# Altium schematic symbol library Nova_SCHLIB.SchLib: 37 symbols
Pins are listed as number, name and electrical type; pins without a type are passive.

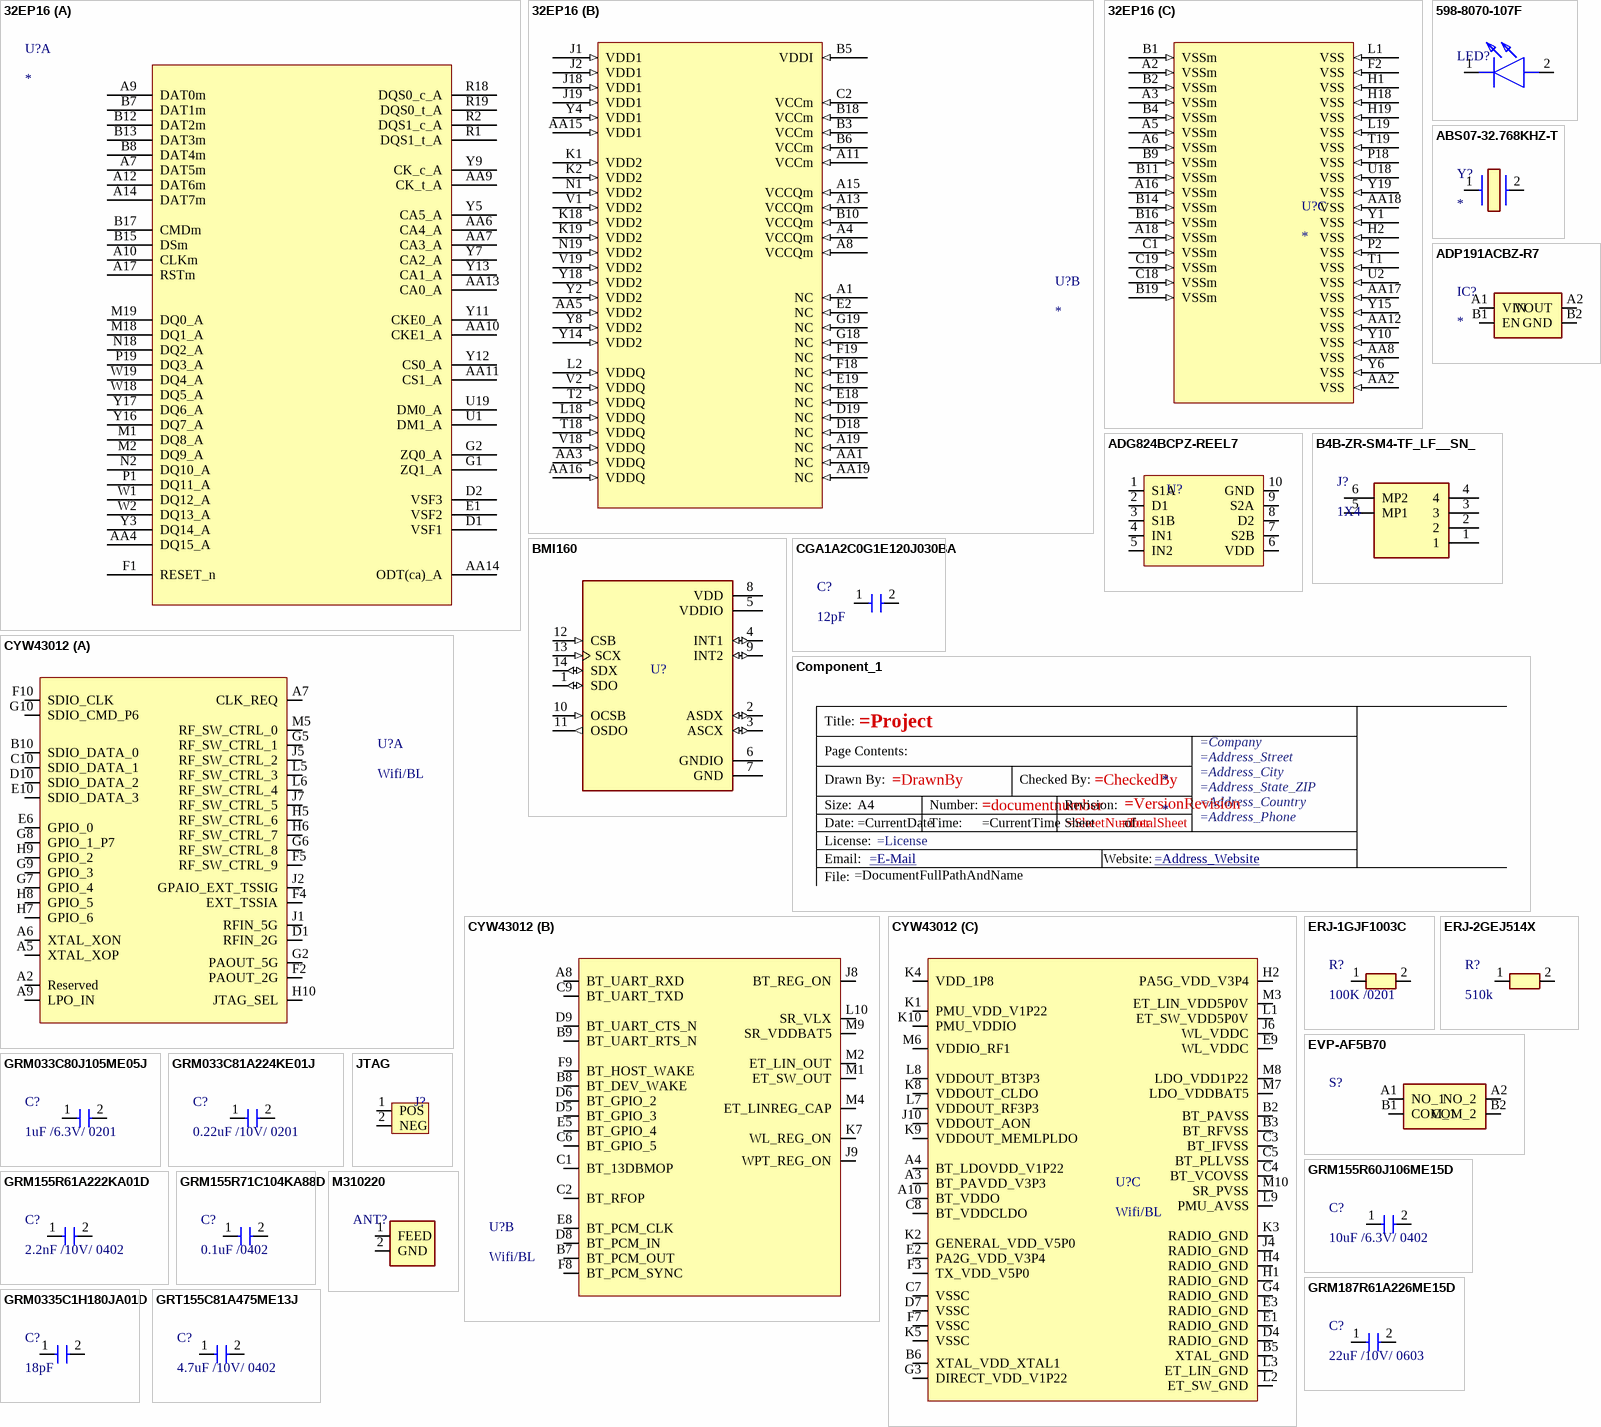
[diagram p0: symbols 32EP16 to M310220]

## 32EP16
designator U?
footprint BGA144C40P19X21_800X950X80 (BGA, 144-Leads, Body 8.00x9.50mmx0.80mm, Pitch 0.40mm)
part A pins: A7 DAT5m, A9 DAT0m, A10 CLKm, A12 DAT6m, A14 DAT7m, A17 RSTm, AA4 DQ15_A, AA6 CA4_A, AA7 CA3_A, AA9 CK_t_A, AA10 CKE1_A, AA11 CS1_A, AA13 CA0_A, AA14 ODT(ca)_A, B7 DAT1m, B8 DAT4m, B12 DAT2m, B13 DAT3m, B15 DSm, B17 CMDm, D1 VSF1, D2 VSF3, E1 VSF2, F1 RESET_n, G1 ZQ1_A, G2 ZQ0_A, M1 DQ8_A, M2 DQ9_A, M18 DQ1_A, M19 DQ0_A, N2 DQ10_A, N18 DQ2_A, P1 DQ11_A, P19 DQ3_A, R1 DQS1_t_A, R2 DQS1_c_A, R18 DQS0_c_A, R19 DQS0_t_A, U1 DM1_A, U19 DM0_A, W1 DQ12_A, W2 DQ13_A, W18 DQ5_A, W19 DQ4_A, Y3 DQ14_A, Y5 CA5_A, Y7 CA2_A, Y9 CK_c_A, Y11 CKE0_A, Y12 CS0_A, Y13 CA1_A, Y16 DQ7_A, Y17 DQ6_A
part B pins: A1 NC (in), A4 VCCQm (in), A8 VCCQm (in), A11 VCCm (in), A13 VCCQm (in), A15 VCCQm (in), A19 NC (in), AA1 NC (in), AA3 VDDQ (in), AA5 VDD2 (in), AA15 VDD1 (in), AA16 VDDQ  (in), AA19 NC (in), B3 VCCm (in), B5 VDDI (in), B6 VCCm (in), B10 VCCQm (in), B18 VCCm (in), C2 VCCm (in), D18 NC (in), D19 NC (in), E2 NC (in), E18 NC (in), E19 NC (in), F18 NC (in), F19 NC (in), G18 NC (in), G19 NC (in), J1 VDD1 (in), J2 VDD1 (in), J18 VDD1 (in), J19 VDD1 (in), K1 VDD2 (in), K2 VDD2 (in), K18 VDD2 (in), K19 VDD2 (in), L2 VDDQ (in), L18 VDDQ (in), N1 VDD2 (in), N19 VDD2 (in), T2 VDDQ (in), T18 VDDQ (in), V1 VDD2 (in), V2 VDDQ (in), V18 VDDQ (in), V19 VDD2 (in), Y2 VDD2 (in), Y4 VDD1 (in), Y8 VDD2 (in), Y14 VDD2 (in), Y18 VDD2 (in)
part C pins: A2 VSSm (in), A3 VSSm (in), A5 VSSm (in), A6 VSSm (in), A16 VSSm (in), A18 VSSm (in), AA2 VSS (in), AA8 VSS (in), AA12 VSS (in), AA17 VSS (in), AA18 VSS (in), B1 VSSm (in), B2 VSSm (in), B4 VSSm (in), B9 VSSm (in), B11 VSSm (in), B14 VSSm (in), B16 VSSm (in), B19 VSSm (in), C1 VSSm (in), C18 VSSm (in), C19 VSSm (in), F2 VSS (in), H1 VSS (in), H2 VSS (in), H18 VSS (in), H19 VSS (in), L1 VSS (in), L19 VSS (in), P2 VSS (in), P18 VSS (in), T1 VSS (in), T19 VSS (in), U2 VSS (in), U18 VSS (in), Y1 VSS (in), Y6 VSS (in), Y10 VSS (in), Y15 VSS (in), Y19 VSS (in)

## 598-8070-107F
designator LED?
LED; Manufacturer_Name: Dialight; Manufacturer_Part_Number: 598-8070-107F; Datasheet Link: https://www.mouser.in/datasheet/2/109/Dialight_CBI_data_598_0603_Apr2018-2944350.pdf; Height: 0.8mm; Mouser Part Number: 645-598-8070-107F; Mouser Price/Stock: https://www.mouser.co.uk/ProductDetail/Dialight/598-8070-107F?qs=7JStj%2FjQ2SEP6f6GzqcocA%3D%3D; Arrow Part Number: 598-8070-107F; Arrow Price/Stock: https://www.arrow.com/en/products/598-8070-107f/dialight?region=nac
footprint 5988070107F
pins: 1 K, 2 A

## ABS07-32.768KHZ-T
designator Y?
Crystal or Oscillator; Manufacturer_Name: ABRACON; Manufacturer_Part_Number: ABS07-32.768KHZ-T; Datasheet Link: https://abracon.com/Resonators/ABS07.pdf; Height: 0.9mm; Mouser Part Number: 815-ABS07-32.768KHZT; Mouser Price/Stock: https://www.mouser.co.uk/ProductDetail/ABRACON/ABS07-32.768KHZ-T?qs=3SpAxaLJ01g8GJWeO3sA3Q%3D%3D; Arrow Part Number: ABS07-32.768KHZ-T; Arrow Price/Stock: https://www.arrow.com/en/products/abs07-32.768khz-t/abracon?utm_currency=USD&region=europe
footprint ABS07
pins: 1, 2

## ADG824BCPZ-REEL7
designator U?
IC SWITCH SPDTX2 800MOHM 10LFCSP; ComponentLink1Description: New link; ComponentLink1URL: https://www.digikey.com/en/products/detail/analog-devices-inc/ADG824BCPZ-REEL7/1956054
footprint ADG824
pins: 1 S1A, 2 D1, 3 S1B, 4 IN1, 5 IN2, 6 VDD, 7 S2B, 8 D2, 9 S2A, 10 GND

## ADP191ACBZ-R7
designator IC?
Integrated Circuit; Manufacturer_Name: Analog Devices; Manufacturer_Part_Number: ADP191ACBZ-R7; Description: Logic Controlled; Mouser Part Number: 584-ADP191ACBZ-R7; Mouser Price/Stock: https://www.mouser.co.uk/ProductDetail/Analog-Devices/ADP191ACBZ-R7?qs=WIvQP4zGaniqVZQregMmwA%3D%3D; Arrow Part Number: ADP191ACBZ-R7; Arrow Price/Stock: https://www.arrow.com/en/products/adp191acbz-r7/analog-devices?region=nac
footprint BGA4C40P2X2_76X76X66
pins: A1 VIN, A2 VOUT, B1 EN, B2 GND

## B4B-ZR-SM4-TF_LF__SN_
designator J?, comment 1X4
Connector; Manufacturer_Name: JST (JAPAN SOLDERLESS TERMINALS); Manufacturer_Part_Number: B4B-ZR-SM4-TF(LF)(SN); Datasheet Link: http://www.jst-mfg.com/product/pdf/eng/eZH.pdf; Height: 5mm; Mouser Part Number: N/A; Mouser Price/Stock: https://www.mouser.co.uk/ProductDetail/JST-Commercial/B4B-ZR-SM4-TFLFSN?qs=IKkN%2F947nfC%2FbT9OqR9GjQ%3D%3D; Arrow Part Number: B4B-ZR-SM4-TF(LF)(SN); Arrow Price/Stock: https://www.arrow.com/en/products/b4b-zr-sm4-tf-lf-sn/jst-manufacturing?region=europe
footprint B4BZRSM4TFLFSN
pins: 1, 2, 3, 4, 5 MP1, 6 MP2

## BMI160
designator U?
Accelerometer, Gyroscope, 6 Axis Sensor IÂ²C, SPI Output; MP: BMI160; Package: None; Price: None; Availability: Unavailable; Value: *
footprint PQFN50P250X300X88-14N
pins: 1 SDO (io), 2 ASDX (io), 3 ASCX (io), 4 INT1 (io), 5 VDDIO (power), 6 GNDIO (power), 7 GND (power), 8 VDD (power), 9 INT2 (io), 10 OCSB (in), 11 OSDO (out), 12 CSB (in), 13 SCX (in), 14 SDX (io)

## CGA1A2C0G1E120J030BA
designator C?, comment 12pF
Capacitor; Manufacturer_Name: TDK; Manufacturer_Part_Number: CGA1A2C0G1E120J030BA; Datasheet Link: https://product.tdk.com/system/files/dam/doc/product/capacitor/ceramic/mlcc/catalog/mlcc_automotive_general_en.pdf; Height: 0.33mm; Mouser Part Number: 810-CGA1A2C0G1E120J; Mouser Price/Stock: https://www.mouser.co.uk/ProductDetail/TDK/CGA1A2C0G1E120J030BA?qs=LcTL%2F5vFEzG7k0pRIRPkpw%3D%3D; Arrow Part Number: CGA1A2C0G1E120J030BA; Arrow Price/Stock: https://www.arrow.com/en/products/cga1a2c0g1e120j030ba/tdk?region=europe
footprint CAPC0603X33N
pins: 1, 2

## Component_1
designator *
text: Title:; Page Contents:; Drawn By:; Checked By:; Size:; A4; Number:; Revision:; Date:; Time:; Sheet; of; License:; Email:; Website:; File:

## CYW43012
designator U?, comment Wifi/BL
footprint 106 BALL WLBGA 3.76X4.43X0.53 MM
part A pins: A2 Reserved, A5 XTAL_XOP, A6 XTAL_XON, A7 CLK_REQ, A9 LPO_IN, B10 SDIO_DATA_0, C10 SDIO_DATA_1, D1 RFIN_2G, D10 SDIO_DATA_2, E6 GPIO_0, E10 SDIO_DATA_3, F2 PAOUT_2G, F4 EXT_TSSIA, F5 RF_SW_CTRL_9, F10 SDIO_CLK, G2 PAOUT_5G, G5 RF_SW_CTRL_1, G6 RF_SW_CTRL_8, G7 GPIO_4, G8 GPIO_1_P7, G9 GPIO_3, G10 SDIO_CMD_P6, H5 RF_SW_CTRL_6, H6 RF_SW_CTRL_7, H7 GPIO_6, H8 GPIO_5, H9 GPIO_2, H10 JTAG_SEL, J1 RFIN_5G, J2 GPAIO_EXT_TSSIG, J5 RF_SW_CTRL_2, J7 RF_SW_CTRL_5, L5 RF_SW_CTRL_3, L6 RF_SW_CTRL_4, M5 RF_SW_CTRL_0
part B pins: A8 BT_UART_RXD, B7 BT_PCM_OUT, B8 BT_DEV_WAKE, B9 BT_UART_RTS_N, C1 BT_13DBMOP, C2 BT_RFOP, C6 BT_GPIO_5, C9 BT_UART_TXD, D5 BT_GPIO_3, D6 BT_GPIO_2, D8 BT_PCM_IN, D9 BT_UART_CTS_N, E5 BT_GPIO_4, E8 BT_PCM_CLK, F8 BT_PCM_SYNC, F9 BT_HOST_WAKE, J8 BT_REG_ON, J9 WPT_REG_ON, K7 WL_REG_ON, L10 SR_VLX, M1 ET_SW_OUT, M2 ET_LIN_OUT, M4 ET_LINREG_CAP, M9 SR_VDDBAT5
part C pins: A3 BT_PAVDD_V3P3, A4 BT_LDOVDD_V1P22, A10 BT_VDDO, B2 BT_PAVSS, B3 BT_RFVSS, B5 XTAL_GND, B6 XTAL_VDD_XTAL1, C3 BT_IFVSS, C4 BT_VCOVSS, C5 BT_PLLVSS, C7 VSSC, C8 BT_VDDCLDO, D4 RADIO_GND, D7 VSSC, E1 RADIO_GND, E2 PA2G_VDD_V3P4, E3 RADIO_GND, E9 WL_VDDC, F3 TX_VDD_V5P0, F7 VSSC, G3 DIRECT_VDD_V1P22, G4 RADIO_GND, H1 RADIO_GND, H2 PA5G_VDD_V3P4, H4 RADIO_GND, J4 RADIO_GND, J6 WL_VDDC, J10 VDDOUT_AON, K1 PMU_VDD_V1P22, K2 GENERAL_VDD_V5P0, K3 RADIO_GND, K4 VDD_1P8, K5 VSSC, K8 VDDOUT_CLDO, K9 VDDOUT_MEMLPLDO, K10 PMU_VDDIO, L1 ET_SW_VDD5P0V, L2 ET_SW_GND, L3 ET_LIN_GND, L7 VDDOUT_RF3P3, L8 VDDOUT_BT3P3, L9 PMU_AVSS, M3 ET_LIN_VDD5P0V, M6 VDDIO_RF1, M7 LDO_VDDBAT5, M8 LDO_VDD1P22, M10 SR_PVSS

## ERJ-1GJF1003C
designator R?, comment 100K /0201
Resistor; Manufacturer_Name: Panasonic; Manufacturer_Part_Number: ERJ-1GJF1003C; Datasheet Link: https://industrial.panasonic.com/cdbs/www-data/pdf/RDA0000/AOA0000C304.pdf; Height: 0.26mm; Mouser Part Number: 667-ERJ-1GJF1003C; Mouser Price/Stock: https://www.mouser.co.uk/ProductDetail/Panasonic/ERJ-1GJF1003C?qs=OcgtsXO%252B3gvI73%2FyUuQiTQ%3D%3D
footprint ERJ1GJJ2R4C
pins: 1, 2

## ERJ-2GEJ514X
designator R?, comment 510k
Resistor; Manufacturer_Name: Panasonic; Manufacturer_Part_Number: ERJ-2GEJ514X; Datasheet Link: https://datasheet.datasheetarchive.com/originals/distributors/DKDS40/DSANUWW0010687.pdf; Height: 0.4mm; Mouser Part Number: 667-ERJ-2GEJ514X; Mouser Price/Stock: https://www.mouser.co.uk/ProductDetail/Panasonic/ERJ-2GEJ514X?qs=YMBIwoNQYdXnnj7PZ2dfzA%3D%3D; Arrow Part Number: ERJ-2GEJ514X; Arrow Price/Stock: https://www.arrow.com/en/products/erj-2gej514x/panasonic?region=europe
footprint ERJ2RKD1004X
pins: 1, 2

## EVP-AF5B70
designator S?
Switch; Manufacturer_Name: Panasonic; Manufacturer_Part_Number: EVP-AF5B70; Datasheet Link: https://www.digikey.ph/en/products/detail/panasonic-electronic-components/EVP-AF5B70/3305741?msockid=39f1ec84d77b6f4428b7f904d6676eed; Height: 0.8mm; Mouser Part Number: 667-EVP-AF5B70; Mouser Price/Stock: https://www.mouser.co.uk/ProductDetail/Panasonic/EVP-AF5B70?qs=MNPzkKEzRtQbwLa8o3U%252BRQ%3D%3D; Arrow Part Number: EVP-AF5B70; Arrow Price/Stock: https://www.arrow.com/en/products/evpaf5b70/panasonic
footprint EVPAF5B70
pins: A1 NO_1, A2 NO_2, B1 COM_1, B2 COM_2

## GRM033C80J105ME05J
designator C?, comment 1uF /6.3V/ 0201
Multilayer Ceramic Capacitors MLCC - SMD/SMT 1 uF 6.3 VDC 20% 0201 X6S; Manufacturer_Name: Murata Electronics; Manufacturer_Part_Number: GRM033C80J105ME05J; Datasheet Link: https://search.murata.co.jp/Ceramy/image/img/A01X/G101/ENG/GRM033C80J105ME05-01A.pdf; Height: 0.33mm; Mouser Part Number: 81-GRM033C80J105ME5J; Mouser Price/Stock: https://www.mouser.co.uk/ProductDetail/Murata-Electronics/GRM033C80J105ME05J?qs=5aG0NVq1C4we89LuRh7HJA%3D%3D; Arrow Part Number: GRM033C80J105ME05J; Arrow Price/Stock: https://www.arrow.com/en/products/grm033c80j105me05j/murata-manufacturing?region=nac
footprint GRM033D70J224ME01D
pins: 1, 2

## GRM033C81A224KE01J
designator C?, comment 0.22uF /10V/ 0201
Multilayer Ceramic Capacitors MLCC - SMD/SMT 0201 10VDC 0.22 F 10 X6S; Manufacturer_Name: Murata Electronics; Manufacturer_Part_Number: GRM033C81A224KE01J; Datasheet Link: https://search.murata.co.jp/Ceramy/image/img/A01X/G101/ENG/GRM033C81A224KE01-01A.pdf; Height: 0.33mm; Mouser Part Number: 81-GRM033C81A224KE1J; Mouser Price/Stock: https://www.mouser.co.uk/ProductDetail/Murata-Electronics/GRM033C81A224KE01J?qs=ufv2HEpFn%252BSIVjJJafvajA%3D%3D
footprint GRM033D70J224ME01D
pins: 1, 2

## GRM155R60J106ME15D
designator C?, comment 10uF /6.3V/ 0402
Multilayer Ceramic Capacitors MLCC - SMD/SMT 10 uF 6.3 VDC 20% 0402 X5R; Manufacturer_Name: Murata Electronics; Manufacturer_Part_Number: GRM155R60J106ME15D; Datasheet Link: https://search.murata.co.jp/Ceramy/image/img/A01X/G101/ENG/GRM155R60J106ME15-01A.pdf; Height: 0.65mm; Mouser Part Number: 81-GRM155R60J106ME5D; Mouser Price/Stock: https://www.mouser.co.uk/ProductDetail/Murata-Electronics/GRM155R60J106ME15D?qs=I53XXhTNm8s65u6%252BR3mHqw%3D%3D; Arrow Part Number: GRM155R60J106ME15D; Arrow Price/Stock: https://www.arrow.com/en/products/grm155r60j106me15d/murata-manufacturing?region=nac
footprint CAPC1005X65N
pins: 1, 2

## GRM155R61A222KA01D
designator C?, comment 2.2nF /10V/ 0402
Multilayer Ceramic Capacitors MLCC - SMD/SMT 2200 pF 10 VDC 10% 0402 X5R; Manufacturer_Name: Murata Electronics; Manufacturer_Part_Number: GRM155R61A222KA01D; Datasheet Link: https://search.murata.co.jp/Ceramy/image/img/A01X/G101/ENG/GRM155R61A222KA01-01A.pdf; Height: 0.7mm; Mouser Part Number: 81-GRM155R61A222KA1D; Mouser Price/Stock: https://www.mouser.co.uk/ProductDetail/Murata-Electronics/GRM155R61A222KA01D?qs=y02iAgv9n60wExGWvVZZNg%3D%3D
footprint CAPC1005X70N
pins: 1, 2

## GRM155R71C104KA88D
designator C?, comment 0.1uF /0402
Capacitor; Manufacturer_Name: Murata Electronics; Manufacturer_Part_Number: GRM155R71C104KA88D; Datasheet Link: https://search.murata.co.jp/Ceramy/image/img/A01X/G101/ENG/GRM155R71C104KA88-01A.pdf; Height: 0.7mm; Mouser Part Number: N/A; Arrow Part Number: GRM155R71C104KA88D; Arrow Price/Stock: https://www.arrow.com/en/products/grm155r71c104ka88d/murata-manufacturing?utm_currency=USD&region=nac
footprint CAPC1005X70N
pins: 1, 2

## GRM187R61A226ME15D
designator C?, comment 22uF /10V/ 0603
Multilayer Ceramic Capacitors MLCC - SMD/SMT 22 uF 10 VDC 20% 0603 X5R; Manufacturer_Name: Murata Electronics; Manufacturer_Part_Number: GRM187R61A226ME15D; Datasheet Link: https://search.murata.co.jp/Ceramy/image/img/A01X/G101/ENG/GRM187R61A226ME15-01A.pdf; Height: 0.9mm; Mouser Part Number: 81-GRM187R61A226ME5D; Mouser Price/Stock: https://www.mouser.co.uk/ProductDetail/Murata-Electronics/GRM187R61A226ME15D?qs=I53XXhTNm8uUaeh8Eawx4Q%3D%3D; Arrow Part Number: GRM187R61A226ME15D; Arrow Price/Stock: https://www.arrow.com/en/products/grm187r61a226me15d/murata-manufacturing?region=nac
footprint GRM18x
pins: 1, 2

## GRM0335C1H180JA01D
designator C?, comment 18pF
Capacitor; Manufacturer_Name: Murata Electronics; Manufacturer_Part_Number: GRM0335C1H180JA01D; Datasheet Link: https://search.murata.co.jp/Ceramy/image/img/A01X/G101/ENG/GRM0335C1H180JA01-01A.pdf; Height: 0.33mm; Mouser Part Number: 81-GRM0335C1H180JA1D; Mouser Price/Stock: https://www.mouser.co.uk/ProductDetail/Murata-Electronics/GRM0335C1H180JA01D?qs=lsk7mV%2FgRRLtYG1v2rvE9A%3D%3D; Arrow Part Number: GRM0335C1H180JA01D; Arrow Price/Stock: https://www.arrow.com/en/products/grm0335c1h180ja01d/murata-manufacturing
footprint CAPC0603X33N
pins: 1, 2

## GRT155C81A475ME13J
designator C?, comment 4.7uF /10V/ 0402
Multilayer Ceramic Capacitors MLCC - SMD/SMT 0402 X6S 4.7 F 20 10VDC AEC-Q200; Manufacturer_Name: Murata Electronics; Manufacturer_Part_Number: GRT155C81A475ME13J; Datasheet Link: https://search.murata.co.jp/Ceramy/image/img/A01X/G101/ENG/GRT155C81A475ME13-01A.pdf; Height: 0.7mm; Mouser Part Number: 81-GRT155C81A475ME3J; Mouser Price/Stock: https://www.mouser.co.uk/ProductDetail/Murata-Electronics/GRT155C81A475ME13J?qs=ufv2HEpFn%252BS%252BPUDm1eQCHw%3D%3D
footprint CAPC1005X70N
pins: 1, 2

## JTAG
designator J?
footprint JTAG
pins: 1 POS, 2 NEG

## M310220
designator ANT?
Antennas WiFi/BT Ceramic; Manufacturer_Name: Kyocera AVX; Manufacturer_Part_Number: M310220; Datasheet Link: https://mouser.componentsearchengine.com/Datasheets/1/M310220.pdf; Height: 1.18mm; Mouser Part Number: 581-M310220; Mouser Price/Stock: https://www.mouser.co.uk/ProductDetail/KYOCERA-AVX/M310220?qs=MLItCLRbWsySMY3y23wkRg%3D%3D; Arrow Part Number: M310220; Arrow Price/Stock: https://www.arrow.com/en/products/m310220/avx?utm_currency=USD&region=nac
footprint M310220
pins: 1 FEED, 2 GND

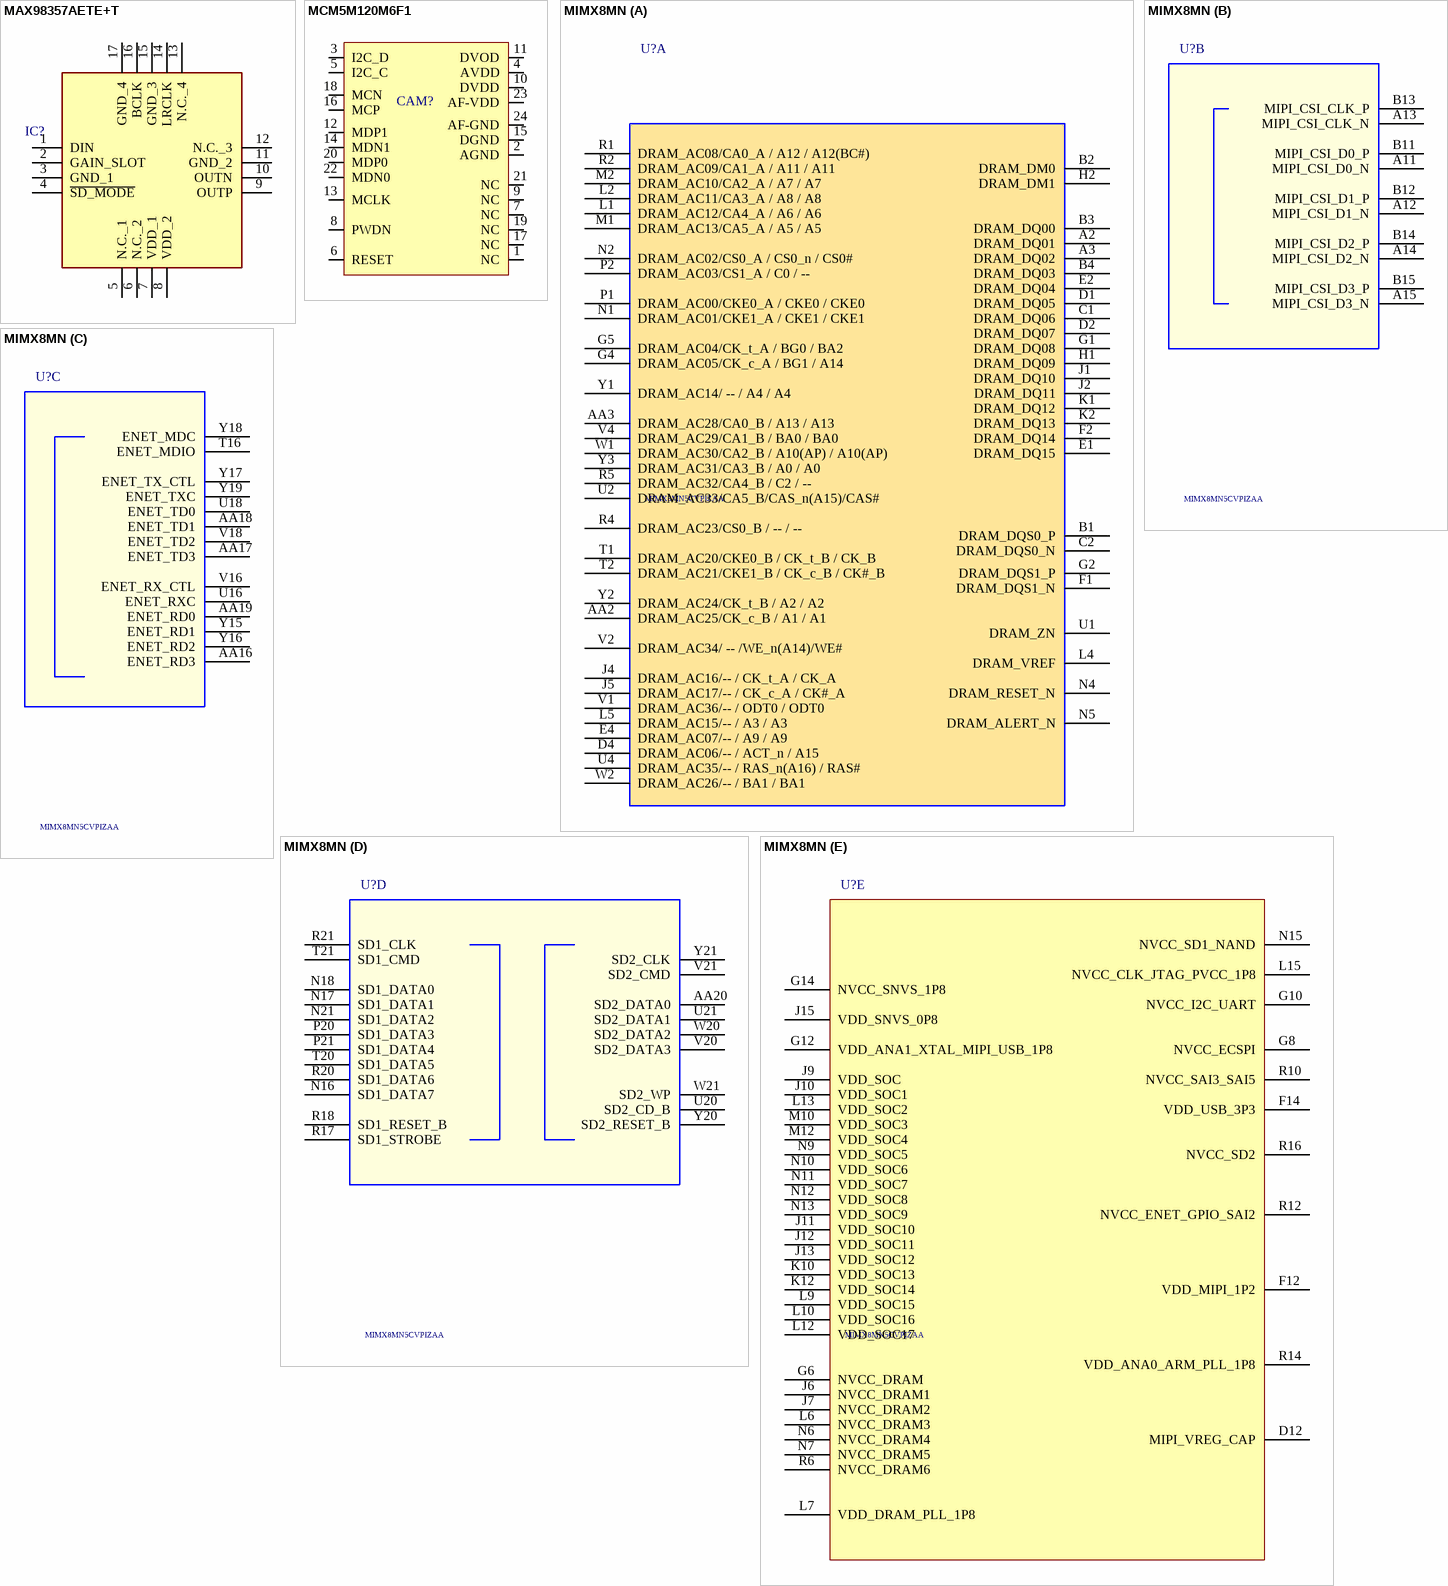
[diagram p1: symbols MAX98357AETE+T to MIMX8MN]

## MAX98357AETE+T
designator IC?
Integrated Circuit; Manufacturer_Name: Analog Devices; Manufacturer_Part_Number: MAX98357AETE+T; Height: 0.8mm; Mouser Part Number: 700-MAX98357AETE+T; Mouser Price/Stock: https://www.mouser.co.uk/ProductDetail/Analog-Devices-Maxim-Integrated/MAX98357AETE%2b?qs=AAveGqk956EyS6m3AmZeuw%3D%3D
footprint QFN50P300X300X80-17N
pins: 1 DIN, 2 GAIN_SLOT, 3 GND_1, 4 ~{SD_MODE}, 5 N.C._1, 6 N.C._2, 7 VDD_1, 8 VDD_2, 9 OUTP, 10 OUTN, 11 GND_2, 12 N.C._3, 13 N.C._4, 14 LRCLK, 15 GND_3, 16 BCLK, 17 GND_4

## MCM5M120M6F1
designator CAM?
MCM5M120M6F1 is a cost effective 5 Mega Pixel MIPI camera module with an M6 lens slot.; ComponentLink1Description: New link; ComponentLink1URL: https://iadiy.com/MIPI-CAMERA-MODULE?product_id=641
footprint MCM5M120M6F1
pins: 1 NC, 2 AGND, 3 I2C_D, 4 AVDD, 5 I2C_C, 6 RESET, 7 NC, 8 PWDN, 9 NC, 10 DVDD, 11 DVOD, 12 MDP1, 13 MCLK, 14 MDN1, 15 DGND, 16 MCP, 17 NC, 18 MCN, 19 NC, 20 MDP0, 21 NC, 22 MDN0, 23 AF-VDD, 24 AF-GND

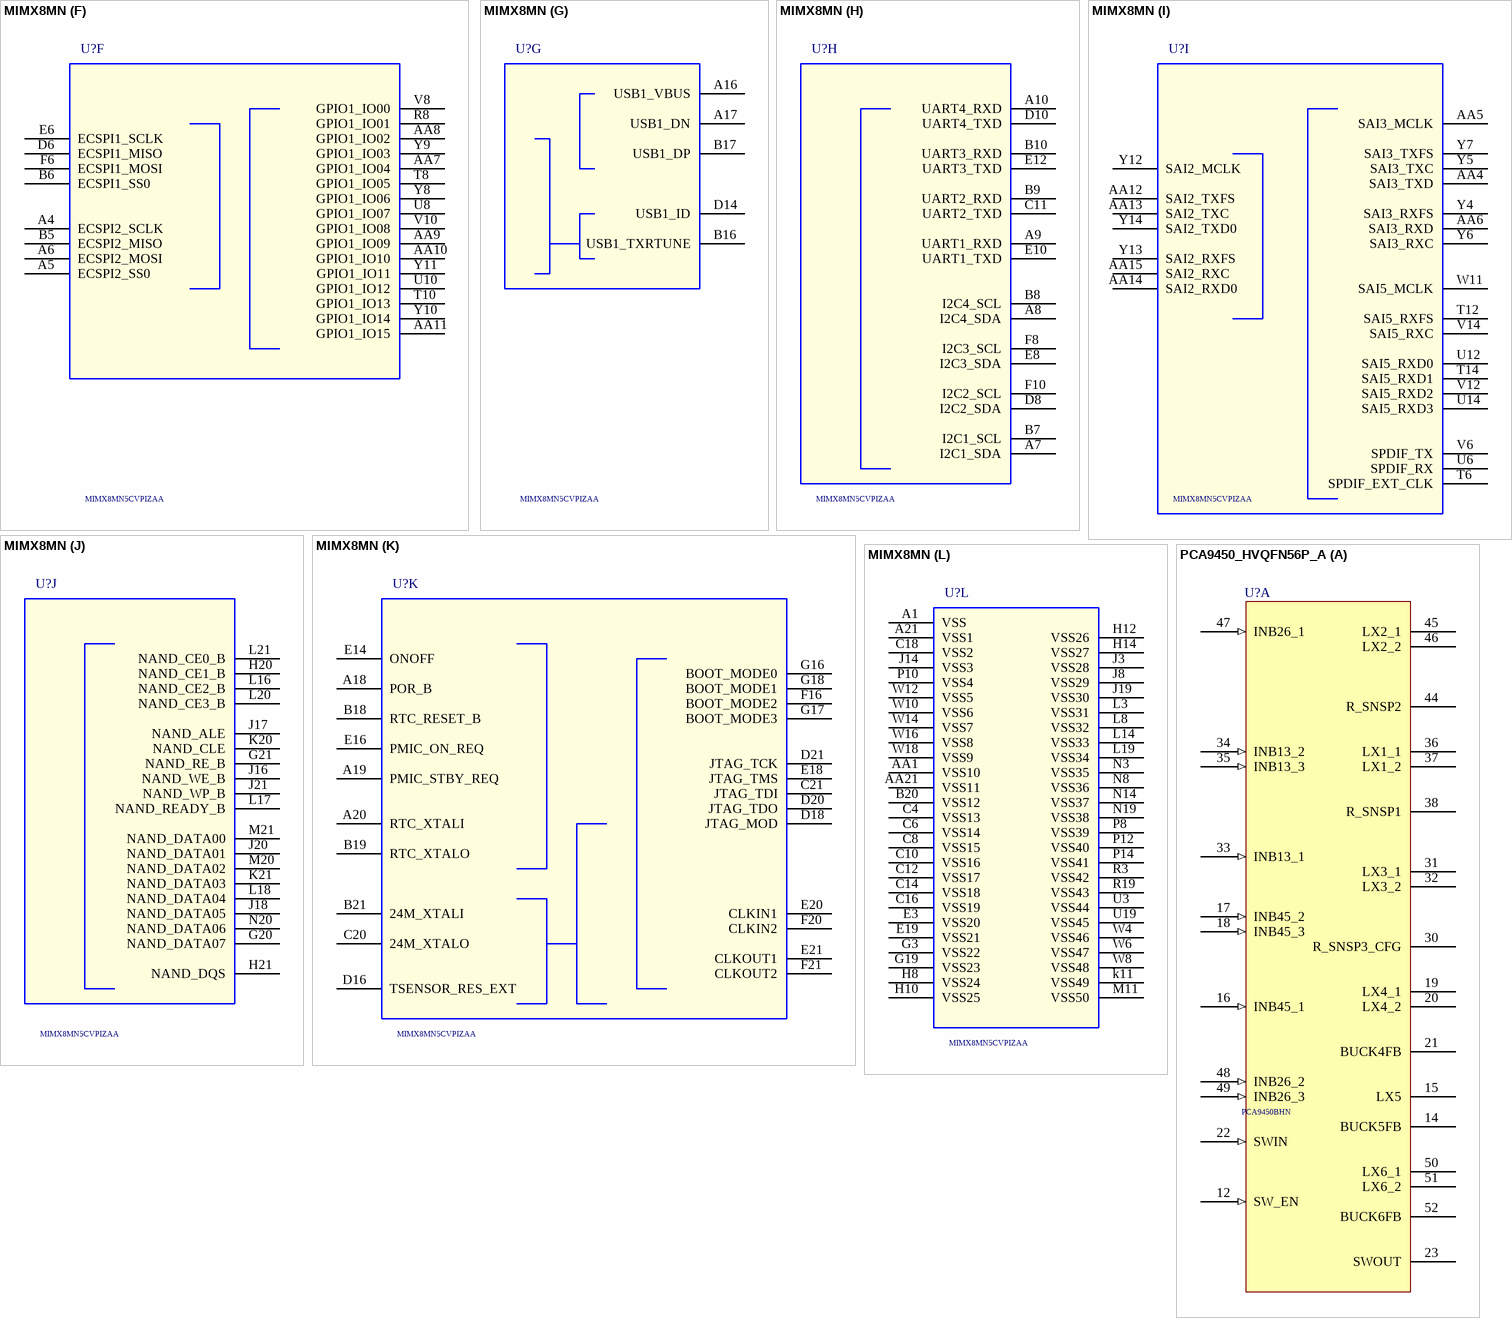
[diagram p2: symbols MIMX8MN to PCA9450_HVQFN56P_A]

## MIMX8MN
designator U?, comment MIMX8MN5CVPIZAA
IC CPU QUAD CORTEX A53+M7 1.4GHZ -- BGA306; PCB Footprint: pbga306_0p5_sq11mm; AGILE_PN: TMP-CIP-5098; CAD_APPROVED: Yes; PRE_APN: 330-77152; Temp Range: -40¡ãC to 105¡ãC; MFG_NAME01: NXP SEMICONDUCTORS; CLASS: IC; HEIGHT: 1.01MM; ROHS: Yes; MFG_PN01: MIMX8MN5CVPIZAA
footprint BGA306C50P21X21_1100X1100X101
part A pins: A2 DRAM_DQ01, A3 DRAM_DQ02, AA2 DRAM_AC25/CK_c_B / A1 / A1, AA3 DRAM_AC28/CA0_B / A13 / A13, B1 DRAM_DQS0_P, B2 DRAM_DM0, B3 DRAM_DQ00, B4 DRAM_DQ03, C1 DRAM_DQ06, C2 DRAM_DQS0_N, D1 DRAM_DQ05, D2 DRAM_DQ07, D4 DRAM_AC06/-- / ACT_n / A15, E1 DRAM_DQ15, E2 DRAM_DQ04, E4 DRAM_AC07/-- / A9 / A9, F1 DRAM_DQS1_N, F2 DRAM_DQ14, G1 DRAM_DQ08, G2 DRAM_DQS1_P, G4 DRAM_AC05/CK_c_A / BG1 / A14, G5 DRAM_AC04/CK_t_A / BG0 / BA2, H1 DRAM_DQ09, H2 DRAM_DM1, J1 DRAM_DQ10, J2 DRAM_DQ11, J4 DRAM_AC16/-- / CK_t_A / CK_A, J5 DRAM_AC17/-- / CK_c_A / CK#_A, K1 DRAM_DQ12, K2 DRAM_DQ13, L1 DRAM_AC12/CA4_A / A6 / A6, L2 DRAM_AC11/CA3_A / A8 / A8, L4 DRAM_VREF, L5 DRAM_AC15/-- / A3 / A3, M1 DRAM_AC13/CA5_A / A5 / A5, M2 DRAM_AC10/CA2_A / A7 / A7, N1 DRAM_AC01/CKE1_A / CKE1 / CKE1, N2 DRAM_AC02/CS0_A / CS0_n / CS0#, N4 DRAM_RESET_N, N5 DRAM_ALERT_N, P1 DRAM_AC00/CKE0_A / CKE0 / CKE0, P2 DRAM_AC03/CS1_A / C0 / --, R1 DRAM_AC08/CA0_A / A12 / A12(BC#), R2 DRAM_AC09/CA1_A / A11 / A11, R4 DRAM_AC23/CS0_B / -- / --, R5 DRAM_AC32/CA4_B / C2 / --, T1 DRAM_AC20/CKE0_B / CK_t_B / CK_B, T2 DRAM_AC21/CKE1_B / CK_c_B / CK#_B, U1 DRAM_ZN, U2 DRAM_AC33/CA5_B/CAS_n(A15)/CAS#, U4 DRAM_AC35/-- / RAS_n(A16) / RAS#, V1 DRAM_AC36/-- / ODT0 / ODT0, V2 DRAM_AC34/ -- /WE_n(A14)/WE#, V4 DRAM_AC29/CA1_B / BA0 / BA0, W1 DRAM_AC30/CA2_B / A10(AP) / A10(AP), W2 DRAM_AC26/-- / BA1 / BA1, Y1 DRAM_AC14/ -- / A4 / A4, Y2 DRAM_AC24/CK_t_B / A2 / A2, Y3 DRAM_AC31/CA3_B / A0 / A0
part B pins: A11 MIPI_CSI_D0_N, A12 MIPI_CSI_D1_N, A13 MIPI_CSI_CLK_N, A14 MIPI_CSI_D2_N, A15 MIPI_CSI_D3_N, B11 MIPI_CSI_D0_P, B12 MIPI_CSI_D1_P, B13 MIPI_CSI_CLK_P, B14 MIPI_CSI_D2_P, B15 MIPI_CSI_D3_P
part C pins: AA16 ENET_RD3, AA17 ENET_TD3, AA18 ENET_TD1, AA19 ENET_RD0, T16 ENET_MDIO, U16 ENET_RXC, U18 ENET_TD0, V16 ENET_RX_CTL, V18 ENET_TD2, Y15 ENET_RD1, Y16 ENET_RD2, Y17 ENET_TX_CTL, Y18 ENET_MDC, Y19 ENET_TXC
part D pins: AA20 SD2_DATA0, N16 SD1_DATA7, N17 SD1_DATA1, N18 SD1_DATA0, N21 SD1_DATA2, P20 SD1_DATA3, P21 SD1_DATA4, R17 SD1_STROBE, R18 SD1_RESET_B, R20 SD1_DATA6, R21 SD1_CLK, T20 SD1_DATA5, T21 SD1_CMD, U20 SD2_CD_B, U21 SD2_DATA1, V20 SD2_DATA3, V21 SD2_CMD, W20 SD2_DATA2, W21 SD2_WP, Y20 SD2_RESET_B, Y21 SD2_CLK
part E pins: D12 MIPI_VREG_CAP, F12 VDD_MIPI_1P2, F14 VDD_USB_3P3, G6 NVCC_DRAM, G8 NVCC_ECSPI, G10 NVCC_I2C_UART, G12 VDD_ANA1_XTAL_MIPI_USB_1P8, G14 NVCC_SNVS_1P8, J6 NVCC_DRAM1, J7 NVCC_DRAM2, J9 VDD_SOC, J10 VDD_SOC1, J11 VDD_SOC10, J12 VDD_SOC11, J13 VDD_SOC12, J15 VDD_SNVS_0P8, K10 VDD_SOC13, K12 VDD_SOC14, L6 NVCC_DRAM3, L7 VDD_DRAM_PLL_1P8, L9 VDD_SOC15, L10 VDD_SOC16, L12 VDD_SOC17, L13 VDD_SOC2, L15 NVCC_CLK_JTAG_PVCC_1P8, M10 VDD_SOC3, M12 VDD_SOC4, N6 NVCC_DRAM4, N7 NVCC_DRAM5, N9 VDD_SOC5, N10 VDD_SOC6, N11 VDD_SOC7, N12 VDD_SOC8, N13 VDD_SOC9, N15 NVCC_SD1_NAND, R6 NVCC_DRAM6, R10 NVCC_SAI3_SAI5, R12 NVCC_ENET_GPIO_SAI2, R14 VDD_ANA0_ARM_PLL_1P8, R16 NVCC_SD2
part F pins: A4 ECSPI2_SCLK, A5 ECSPI2_SS0, A6 ECSPI2_MOSI, AA7 GPIO1_IO04, AA8 GPIO1_IO02, AA9 GPIO1_IO09, AA10 GPIO1_IO10, AA11 GPIO1_IO15, B5 ECSPI2_MISO, B6 ECSPI1_SS0, D6 ECSPI1_MISO, E6 ECSPI1_SCLK, F6 ECSPI1_MOSI, R8 GPIO1_IO01, T8 GPIO1_IO05, T10 GPIO1_IO13, U8 GPIO1_IO07, U10 GPIO1_IO12, V8 GPIO1_IO00, V10 GPIO1_IO08, Y8 GPIO1_IO06, Y9 GPIO1_IO03, Y10 GPIO1_IO14, Y11 GPIO1_IO11
part G pins: A16 USB1_VBUS, A17 USB1_DN, B16 USB1_TXRTUNE, B17 USB1_DP, D14 USB1_ID
part H pins: A7 I2C1_SDA, A8 I2C4_SDA, A9 UART1_RXD, A10 UART4_RXD, B7 I2C1_SCL, B8 I2C4_SCL, B9 UART2_RXD, B10 UART3_RXD, C11 UART2_TXD, D8 I2C2_SDA, D10 UART4_TXD, E8 I2C3_SDA, E10 UART1_TXD, E12 UART3_TXD, F8 I2C3_SCL, F10 I2C2_SCL
part I pins: AA4 SAI3_TXD, AA5 SAI3_MCLK, AA6 SAI3_RXD, AA12 SAI2_TXFS, AA13 SAI2_TXC, AA14 SAI2_RXD0, AA15 SAI2_RXC, T6 SPDIF_EXT_CLK, T12 SAI5_RXFS, T14 SAI5_RXD1, U6 SPDIF_RX, U12 SAI5_RXD0, U14 SAI5_RXD3, V6 SPDIF_TX, V12 SAI5_RXD2, V14 SAI5_RXC, W11 SAI5_MCLK, Y4 SAI3_RXFS, Y5 SAI3_TXC, Y6 SAI3_RXC, Y7 SAI3_TXFS, Y12 SAI2_MCLK, Y13 SAI2_RXFS, Y14 SAI2_TXD0
part J pins: G20 NAND_DATA07, G21 NAND_RE_B, H20 NAND_CE1_B, H21 NAND_DQS, J16 NAND_WE_B, J17 NAND_ALE, J18 NAND_DATA05, J20 NAND_DATA01, J21 NAND_WP_B, K20 NAND_CLE, K21 NAND_DATA03, L16 NAND_CE2_B, L17 NAND_READY_B, L18 NAND_DATA04, L20 NAND_CE3_B, L21 NAND_CE0_B, M20 NAND_DATA02, M21 NAND_DATA00, N20 NAND_DATA06
part K pins: A18 POR_B, A19 PMIC_STBY_REQ, A20 RTC_XTALI, B18 RTC_RESET_B, B19 RTC_XTALO, B21 24M_XTALI, C20 24M_XTALO, C21 JTAG_TDI, D16 TSENSOR_RES_EXT, D18 JTAG_MOD, D20 JTAG_TDO, D21 JTAG_TCK, E14 ONOFF, E16 PMIC_ON_REQ, E18 JTAG_TMS, E20 CLKIN1, E21 CLKOUT1, F16 BOOT_MODE2, F20 CLKIN2, F21 CLKOUT2, G16 BOOT_MODE0, G17 BOOT_MODE3, G18 BOOT_MODE1
part L pins: A1 VSS, A21 VSS1, AA1 VSS10, AA21 VSS11, B20 VSS12, C4 VSS13, C6 VSS14, C8 VSS15, C10 VSS16, C12 VSS17, C14 VSS18, C16 VSS19, C18 VSS2, E3 VSS20, E19 VSS21, G3 VSS22, G19 VSS23, H8 VSS24, H10 VSS25, H12 VSS26, H14 VSS27, J3 VSS28, J8 VSS29, J14 VSS3, J19 VSS30, k11 VSS49, L3 VSS31, L8 VSS32, L14 VSS33, L19 VSS34, M11 VSS50, N3 VSS35, N8 VSS36, N14 VSS37, N19 VSS38, P8 VSS39, P10 VSS4, P12 VSS40, P14 VSS41, R3 VSS42, R19 VSS43, U3 VSS44, U19 VSS45, W4 VSS46, W6 VSS47, W8 VSS48, W10 VSS6, W12 VSS5, W14 VSS7, W16 VSS8, W18 VSS9

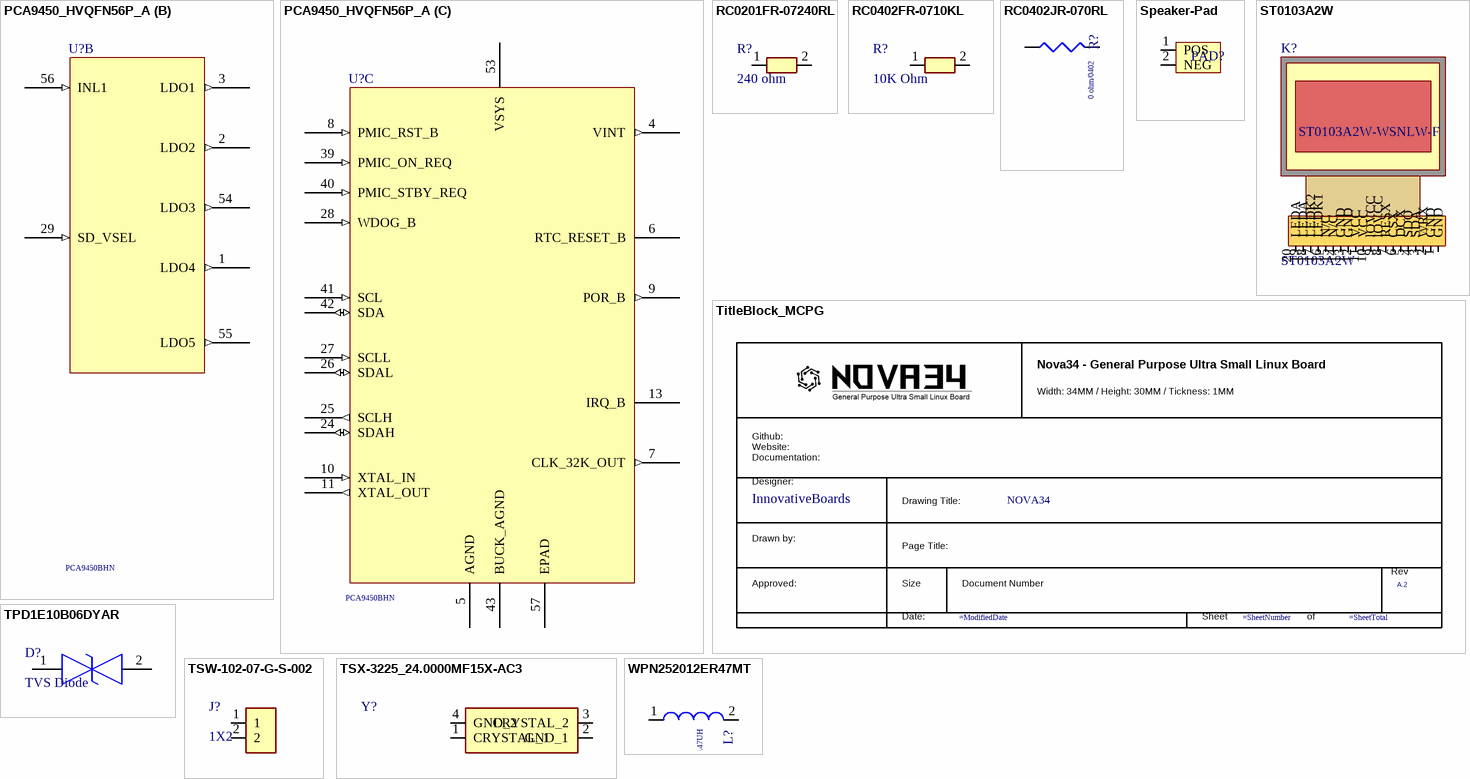
[diagram p3: symbols PCA9450_HVQFN56P_A to WPN252012ER47MT]

## PCA9450_HVQFN56P_A
designator U?, comment PCA9450BHN
IC POWER MANAGEMENT 2.7-5.5V HVQFN56; SPLIT_INST: TRUE; SWAP_INFO: (S1+S2+S3); CAD_APPROVED: Yes; PRE_APN: 315-82314; Temp_Range: -40C to +105C; MFG_NAME01: NXP SEMICONDUCTORS; AGILE_PN: TMP-WF-36197; PCB Footprint: hvqfn56_0p4_7x7_ep4p7mm; CLASS: IC; HEIGHT: 1MM; ROHS: Yes; MFG_PN01: PCA9450BHN; VOLTAGE: 2.7-5.5V; Temp Range: -40C to +105C
footprint QFN40P700X700X100-57N-D
part A pins: 12 SW_EN (in), 14 BUCK5FB, 15 LX5, 16 INB45_1 (in), 17 INB45_2 (in), 18 INB45_3 (in), 19 LX4_1, 20 LX4_2, 21 BUCK4FB, 22 SWIN (in), 23 SWOUT, 30 R_SNSP3_CFG, 31 LX3_1, 32 LX3_2, 33 INB13_1 (in), 34 INB13_2 (in), 35 INB13_3 (in), 36 LX1_1, 37 LX1_2, 38 R_SNSP1, 44 R_SNSP2, 45 LX2_1, 46 LX2_2, 47 INB26_1 (in), 48 INB26_2 (in), 49 INB26_3 (in), 50 LX6_1, 51 LX6_2, 52 BUCK6FB
part B pins: 1 LDO4 (out), 2 LDO2 (out), 3 LDO1 (out), 29 SD_VSEL (in), 54 LDO3 (out), 55 LDO5 (out), 56 INL1 (in)
part C pins: 4 VINT (out), 5 AGND (power), 6 RTC_RESET_B (oc), 7 CLK_32K_OUT (out), 8 PMIC_RST_B (in), 9 POR_B (out), 10 XTAL_IN (in), 11 XTAL_OUT (out), 13 IRQ_B (oc), 24 SDAH (io), 25 SCLH (out), 26 SDAL (io), 27 SCLL (in), 28 WDOG_B (in), 39 PMIC_ON_REQ (in), 40 PMIC_STBY_REQ (in), 41 SCL (in), 42 SDA (io), 43 BUCK_AGND (power), 53 VSYS (power), 57 EPAD (power)

## RC0201FR-07240RL
designator R?, comment 240 ohm
Resistor; Manufacturer_Name: KEMET; Manufacturer_Part_Number: RC0201FR-07240RL; Datasheet Link: http://www.yageo.com/documents/recent/PYu-RC0201_51_RoHS_L_8.pdf; Height: 0.26mm; Mouser Part Number: 603-RC0201FR-07240RL; Mouser Price/Stock: http://www.mouser.com/Search/ProductDetail.aspx?qs=qUsL5DZkYVqW175bPUdS2w%3d%3d; Arrow Part Number: RC0201FR-07240RL; Arrow Price/Stock: https://www.arrow.com/en/products/rc0201fr-07240rl/yageo
footprint RESC0603X26N
pins: 1, 2

## RC0402FR-0710KL
designator R?, comment 10K Ohm
Resistor; Manufacturer_Name: KEMET; Manufacturer_Part_Number: RC0402FR-0710KL; Datasheet Link: http://www.yageo.com/documents/recent/PYu-RC0402_51_RoHS_L_6_r.pdf; Height: 0.4mm; Mouser Part Number: 603-RC0402FR-0710KL; Mouser Price/Stock: https://www.mouser.co.uk/ProductDetail/YAGEO/RC0402FR-0710KL?qs=I1mnnYJTTsxUoNwrUsQExA%3D%3D; Arrow Part Number: RC0402FR-0710KL; Arrow Price/Stock: https://www.arrow.com/en/products/rc0402fr-0710kl/yageo?region=europe
footprint RESC1005X40N
pins: 1, 2

## RC0402JR-070RL
designator R?, comment 0 ohm/0402
RES MF ZERO OHM 1/16W 5% 0402; CLASS: DISCRETE; AGILE_PN: 470-75394; MFG_NAME01: YAGEO AMERICA; MFG_PN01: RC0402JR-070RL; CAD_APPROVED: Yes; FPLIST: RC0402_25,RC0402_HD,RC0402_X2,0402_CC; PCB Footprint: 0402_CC; Tolerance: 5%; ROHS: Yes; HEIGHT: 0.45 MM; VOLTAGE: 1/16W
footprint RES_0402
pins: 1, 2

## Speaker-Pad
designator PAD?
footprint Speaker-Pad
pins: 1 POS, 2 NEG

## ST0103A2W
designator K?
footprint Display
pins: 1 GND (power), 2 GND (power), 3 WRX (in), 4 SDA (in), 5 SDO (in), 6 DCX (in), 7 CSX (in), 8 RESX (in), 9 lOVCC (power), 10 lOVCC (power), 11 VCC (power), 12 VCC (power), 13 GND (power), 14 GND (power), 15 N/C, 16 N/C, 17 LEDK1 (in), 18 LEDK2 (in), 19 LEDA (in), 20 LEDA (in)
text: ST0103A2W-WSNLW-F

## TitleBlock_MCPG
designator *  RevCode: A.2  (hidden comment: *)  (graphical)
Page Create Date: March  8, 1995
text: Nova34 - General Purpose Ultra Small Linux Board; Width: 34MM / Height: 30MM / Tickness: 1MM; Github: / Website: / Documentation:; Designer:; InnovativeBoards; Drawing Title:; NOVA34; Drawn by:; Page Title:; Rev; Approved:; Size; Document Number; Date:; Sheet; of

## TPD1E10B06DYAR
designator D?, comment TVS Diode
TVS Diode (Bi-directional); Manufacturer_Name: Texas Instruments; Manufacturer_Part_Number: TPD1E10B06DYAR; Description: ESD Suppressors / TVS Diodes 12-pF; Datasheet Link: https://www.ti.com/lit/ds/symlink/tpd1e10b06.pdf?ts=1676259025619&ref_url=https%253A%252F%252Fwww.ti.com%252Fproduct%252FTPD1E10B06%252Fpart-details%252FTPD1E10B06DYAR; Height: 0.77mm; Mouser Part Number: 595-TPD1E10B06DYAR; Mouser Price/Stock: https://www.mouser.co.uk/ProductDetail/Texas-Instruments/TPD1E10B06DYAR?qs=Rp5uXu7WBW9%2F66n97S3Kgw%3D%3D; Arrow Part Number: TPD1E10B06DYAR; Arrow Price/Stock: https://www.arrow.com/en/products/tpd1e10b06dyar/texas-instruments?utm_currency=USD&region=nac
footprint SODFL1608X77N
pins: 1, 2

## TSW-102-07-G-S-002
designator J?, comment 1X2
Connector; Manufacturer_Name: SAMTEC; Manufacturer_Part_Number: TSW-102-07-G-S-002; Datasheet Link: http://suddendocs.samtec.com/prints/tsw-xxx-xx-xxx-x-xx-xxx-mkt.pdf; Height: 8.38mm; Mouser Part Number: 200-TSW-10207GS002; Mouser Price/Stock: https://www.mouser.co.uk/ProductDetail/Samtec/TSW-102-07-G-S-002?qs=icabnvfcbsHvpvHCodBv1Q%3D%3D; Arrow Part Number: TSW-102-07-G-S-002; Arrow Price/Stock: https://www.arrow.com/en/products/tsw-102-07-g-s-002/samtec?region=nac
footprint HDRV2W64P0X254_1X2_508X254X838P
pins: 1, 2

## TSX-3225_24.0000MF15X-AC3
designator Y?
Crystal or Oscillator; Manufacturer_Name: Epson Timing; Manufacturer_Part_Number: TSX-3225 24.0000MF15X-AC3; Datasheet Link: http://www.mouser.com/ds/2/137/1721499-465440.pdf; Height: 0.6mm; Mouser Part Number: 732-TX325-24F15X-AC3; Mouser Price/Stock: https://www.mouser.co.uk/ProductDetail/Epson-Timing/TSX-3225-24.0000MF15X-AC3?qs=tC2qD9afNgpYJ9VgPl1%2FUg%3D%3D; Arrow Part Number: TSX-3225 24.0000MF15X-AC3; Arrow Price/Stock: https://www.arrow.com/en/products/tsx-322524.0000mf15x-ac3/epson-electronics-america?utm_currency=USD&region=nac
footprint TSX3225240000MF15XAC3
pins: 1 CRYSTAL_1, 2 GND_1, 3 CRYSTAL_2, 4 GND_2

## WPN252012ER47MT
designator L?, comment 0.47UH
470 nH Shielded Drum Core, Wirewound Inductor 4.1 A 32mOhm Max 1008 (2520 Metric); PART_TYPE: INDUCTOR\POWER; CLASS: DISCRETE; Temp Range: -40¡ãC to +125¡ãC; CAD_APPROVED: Yes; MFG_PN01: WPN252012ER47MT; MFG_NAME01: SHENZHEN SUNLORD ELECTRONICS CO., LTD; TOL: 20%; AGILE_PN: 180-78647; PCB Footprint: ind_sph2520; HEIGHT: 1.2MM; Temp_Range: -40¡ãC to +125¡ãC; ROHS: Yes; Tolerance: 20%
footprint IND_SPH2520 (INDUCTOR_IND_SPH2520_DISCRETE_1\By AAR)
pins: 1, 2